# Altium integrated library VBPW34S.IntLib: 1 symbol
Pins are listed as number, name and electrical type; pins without a type are passive.

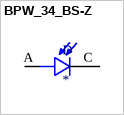
[diagram p0: symbol BPW_34_BS-Z]

## BPW_34_BS-Z
designator D
Photodiode 850nm 25ns 120Â° 2-SMD, Gull Wing; MP: BPW 34 BS-Z; MF: OSRAM Opto; SnapEDA_Link: https://www.snapeda.com/parts/BPW%2034%20BS-Z/OSRAM%20Opto%20Semiconductors%20Inc./view-part/392328/?ref=snap; Value: *; Package: SMD-2 Osram Opto; Price: None; Availability: Unavailable
footprint DIO_BPW_34_BS-Z
pins: A, C